# Altium footprint library PTV1124420AB104.PcbLib: 1 footprints
Each footprint in its own frame and in the unit in brackets; x right, y up, seen from the top. Pads: shape width x height; smd on the part's side, far side on the other; paste and mask are expansions set on the pad; w line width, h text height; cw(c..) or ccw(c..) is an arc to the next point about the centre after c.
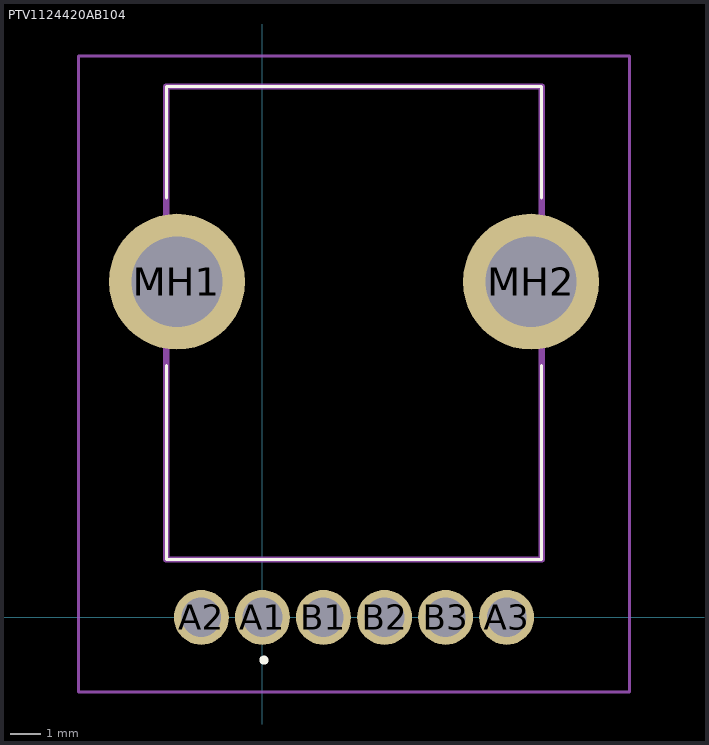
[diagram p0: the footprint, top view; thin cyan lines are the x and y axes]

## PTV1124420AB104 [mm]
pads (8):
  round 1.8 hole 1.3: A1(0,0) A2(-2,0) A3(8,0) B1(2,0) B2(4,0) B3(6,0)
  round 4.455 hole 2.97: MH1(-2.8,11) MH2(8.8,11)
Top Overlay:
  lines w0.1: -3.15,1.9 9.15,1.9 ; -3.15,1.9 -3.15,1.9 ; -3.15,1.9 9.15,1.9 ; -3.15,1.9 -3.15,1.9 ; -3.15,1.9 -3.15,8.25 ; -3.15,1.9 -3.15,8.25 ; -3.15,8.25 -3.15,8.25 ; -3.15,13.75 -3.15,13.75 ; -3.15,13.75 -3.15,17.4 ; -3.15,13.75 -3.15,17.4 ; -3.15,17.4 9.15,17.4 ; -3.15,17.4 9.15,17.4 ; -3.15,17.4 -3.15,17.4 ; -3.15,17.4 -3.15,17.4 ; 9.15,1.9 9.15,1.9 ; 9.15,1.9 9.15,8.25 ; 9.15,1.9 9.15,1.9 ; 9.15,1.9 9.15,8.25 ; 9.15,8.25 9.15,8.25 ; 9.15,13.75 9.15,17.4 ; 9.15,13.75 9.15,13.75 ; 9.15,13.75 9.15,17.4 ; 9.15,17.4 9.15,17.4 ; 9.15,17.4 9.15,17.4
  lines w0.2: 0,-1.4 0,-1.4 ; 0,-1.4 ccw(c0.05,-1.4) 0.1,-1.4 ; 0,-1.4 cw(c0.05,-1.4) 0.1,-1.4 ; 0,-1.4 0,-1.4 ; 0,-1.4 ccw(c0.05,-1.4) 0.1,-1.4 ; 0.1,-1.4 0.1,-1.4
Mechanical 15:
  lines w0.2: -3.15,1.9 9.15,1.9 9.15,17.4 -3.15,17.4 -3.15,1.9
Mechanical 20:
  lines w0.1: -6.027,-2.45 12.027,-2.45 12.027,18.4 -6.027,18.4 -6.027,-2.45